# EAGLE library part SCC2691 (library 68komputer)
SCC2691 – Universal asynchronous receiver/transmitter (UART) Datasheet <https://www.nxp.com/docs/en/data-sheet/SCC2691.pdf>
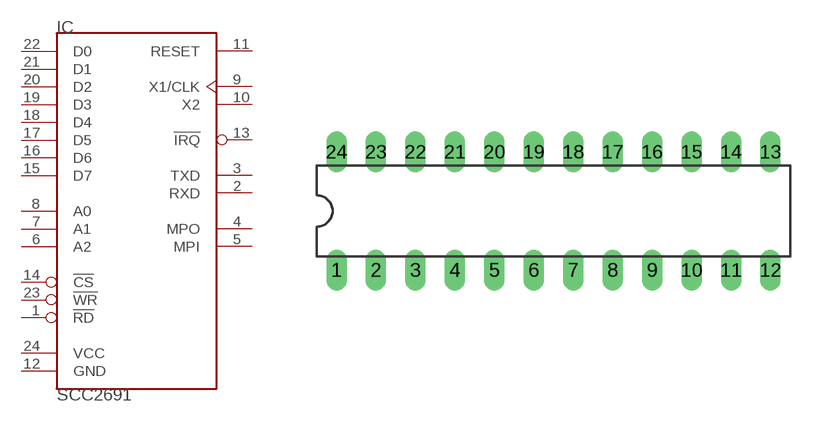
[diagram p31: symbol with the pads of DIL24S; footprint DIL24S]

Designator prefix IC

## SCC2691 (VALUE: SCC2691)  [DIL24S]
1  !RD  in
2  RXD  in
3  TXD  out
4  MPO  out
5  MPI  in
6  A2  in
7  A1  in
8  A0  in
9  X1/CLK  pas
10  X2  pas
11  RESET  in
12  GND  pwr
13  !IRQ  out
14  !CS  in
15  D7
16  D6
17  D5
18  D4
19  D3
20  D2
21  D1
22  D0
23  !WR  in
24  VCC  pwr

## Footprint DIL24S (pad centres in mm)
Dual In Line Package Small
drill 0.813 long: 1 -13.97,-3.81; 2 -11.43,-3.81; 3 -8.89,-3.81; 4 -6.35,-3.81; 5 -3.81,-3.81; 6 -1.27,-3.81; 7 1.27,-3.81; 8 3.81,-3.81; 9 6.35,-3.81; 10 8.89,-3.81; 11 11.43,-3.81; 12 13.97,-3.81; 13 13.97,3.81; 14 11.43,3.81; 15 8.89,3.81; 16 6.35,3.81; 17 3.81,3.81; 18 1.27,3.81; 19 -1.27,3.81; 20 -3.81,3.81; 21 -6.35,3.81; 22 -8.89,3.81; 23 -11.43,3.81; 24 -13.97,3.81